# Altium footprint library F_Keys_components.PcbLib: 6 footprints
Each footprint in its own frame and in the unit in brackets; x right, y up, seen from the top. Pads: shape width x height; smd on the part's side, far side on the other; paste and mask are expansions set on the pad; w line width, h text height; cw(c..) or ccw(c..) is an arc to the next point about the centre after c.
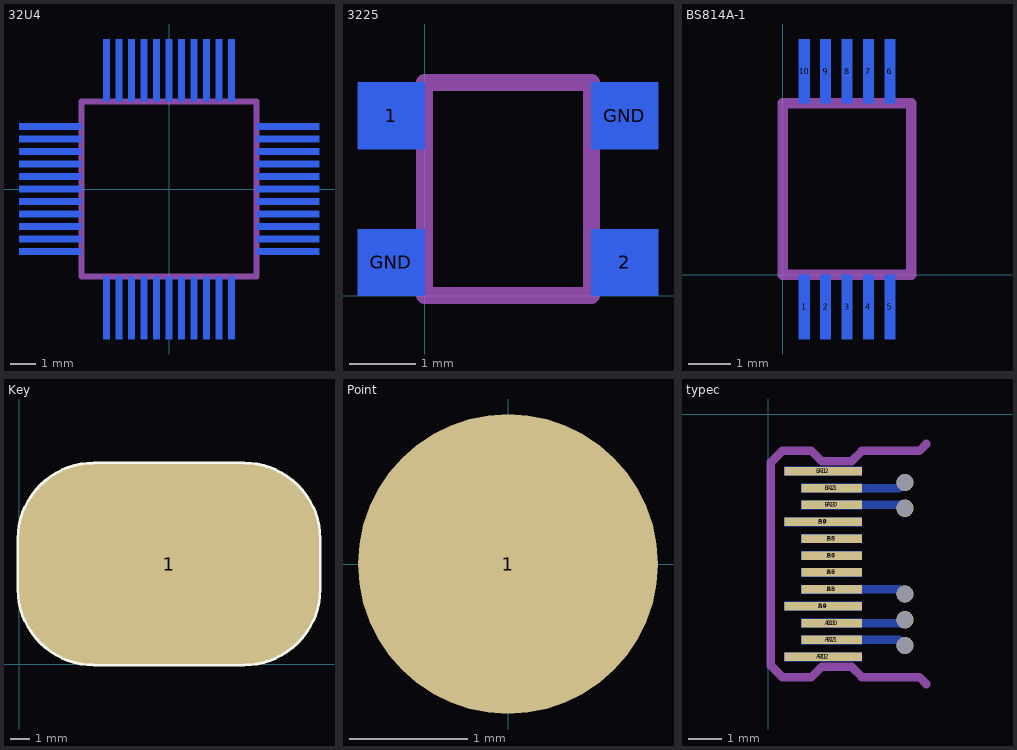
[diagram p0: the footprints below, top view; thin cyan lines are the x and y axes]

## 32U4 [mm]
pads (44):
  rect 2.5x0.25 smd far side: 1(-4.75,2.5) 2(-4.75,2) 3(-4.75,1.5) 4(-4.75,1) 5(-4.75,0.5) 6(-4.75,0) 7(-4.75,-0.5) 8(-4.75,-1) 9(-4.75,-1.5) 10(-4.75,-2) 11(-4.75,-2.5) 23(4.75,-2.5) 24(4.75,-2) 25(4.75,-1.5) 26(4.75,-1) 27(4.75,-0.5) 28(4.75,0) 29(4.75,0.5) 30(4.75,1) 31(4.75,1.5) 32(4.75,2) 33(4.75,2.5)
  rect 0.25x2.5 smd far side: 12(-2.5,-4.75) 13(-2,-4.75) 14(-1.5,-4.75) 15(-1,-4.75) 16(-0.5,-4.75) 17(0,-4.75) 18(0.5,-4.75) 19(1,-4.75) 20(1.5,-4.75) 21(2,-4.75) 22(2.5,-4.75) 34(2.5,4.75) 35(2,4.75) 36(1.5,4.75) 37(1,4.75) 38(0.5,4.75) 39(0,4.75) 40(-0.5,4.75) 41(-1,4.75) 42(-1.5,4.75) 43(-2,4.75) 44(-2.5,4.75)
Mechanical 1:
  lines w0.254: -3.5,-3.5 3.5,-3.5 3.5,3.5 -3.5,3.5 -3.5,-3.5

## 3225 [mm]
pads (4):
  rect 1x1 smd far side: 1(-0.5,2.7) 2(3,0.5) GND(-0.5,0.5) GND(3,2.7)
Mechanical 1:
  lines w0.254: 0,0 2.5,0 2.5,3.2 0,3.2 0,0

## BS814A-1 [mil]
pads (10):
  rect 10x60 smd far side: 1(20,-30) 2(40,-30) 3(60,-30) 4(80,-30) 5(100,-30) 6(100,190) 7(80,190) 8(60,190) 9(40,190) 10(20,190)
Mechanical 1:
  lines w10: 0,0 0,160 120,160 120,0 0,0

## Key [mm]
pads (1):
  rrect75% 15.24x10.16 smd mask+0.102: 1(7.62,5.08)
Top Overlay:
  lines w0.254: 0,3.81 ccw(c3.81,3.81) 3.81,0 11.43,0 ccw(c11.43,3.81) 15.24,3.81 15.24,6.35 ccw(c11.43,6.35) 11.43,10.16 3.81,10.16 ccw(c3.81,6.35) 0,6.35 0,3.81
Top Solder:
  lines w1.27: 1.27,3.81 ccw(c3.81,3.81) 3.81,1.27 11.43,1.27 ccw(c11.43,3.81) 13.97,3.81 13.97,6.35 ccw(c11.43,6.35) 11.43,8.89 3.81,8.89 ccw(c3.81,6.35) 1.27,6.35 1.27,3.81

## Point [mm]
pads (1):
  round 2.54 smd: 1(0,0)

## typec [mm]
pads (24):
  rect 2.3x0.25 smd: A1(1.631,-1.691) A4(1.631,-3.191) A9(1.631,-5.691) A12(1.631,-7.191)
  rect 1.8x0.25 smd: A2(1.881,-2.191) A3(1.881,-2.691) A5(1.881,-3.691) A6(1.881,-4.191) A7(1.881,-4.691) A8(1.881,-5.191) A10(1.881,-6.191) A11(1.881,-6.691)
  rect 2.3x0.25 smd far side: B1(1.631,-7.191) B4(1.631,-5.691) B9(1.631,-3.191) B12(1.631,-1.691)
  rect 1.8x0.25 smd far side: B2(1.881,-6.691) B3(1.881,-6.191) B5(1.881,-5.191) B6(1.881,-4.691) B7(1.881,-4.191) B8(1.881,-3.691) B10(1.881,-2.691) B11(1.881,-2.191)
via 4.051,-2.79 diameter 0.508 hole 0.495
via 4.051,-2.028 diameter 0.508 hole 0.495
via 4.051,-6.854 diameter 0.508 hole 0.495
via 4.051,-6.092 diameter 0.508 hole 0.495
via 4.051,-5.33 diameter 0.508 hole 0.495
Bottom Layer:
  lines w0.254: 1.881,-6.691 3.888,-6.691 4.051,-6.854 ; 1.881,-6.191 3.952,-6.191 4.051,-6.092 ; 1.881,-5.191 2.92,-5.191 3.912,-5.191 4.051,-5.33 ; 1.881,-2.691 3.952,-2.691 4.051,-2.79 ; 1.881,-2.191 3.888,-2.191 4.051,-2.028
Top Solder:
  rectangle: -0.013,-7.87 4.559,-1.012
Bottom Solder:
  rectangle: -0.013,-7.87 4.559,-1.012
Drill Guide:
  lines w0.254: -0.013,-8.886 0.282,-8.591 4.481,-8.591 4.686,-8.386 4.686,-8.251 4.686,-7.996 ; -0.013,0.004 0.282,-0.291 4.481,-0.291 4.686,-0.496 4.686,-0.631 4.686,-0.886
Mechanical 1:
  lines w0.254: 4.686,-7.996 4.481,-7.791 2.781,-7.791 2.479,-7.489 1.892,-7.489 1.583,-7.489 1.281,-7.791 0.416,-7.791 0.081,-7.456 0.081,-1.426 0.416,-1.091 1.281,-1.091 1.583,-1.393 1.892,-1.393 2.479,-1.393 2.781,-1.091 4.481,-1.091 4.686,-0.886